# Altium footprint library pcb_lib.PcbLib: 5 footprints
Each footprint in its own frame and in the unit in brackets; x right, y up, seen from the top. Pads: shape width x height; smd on the part's side, far side on the other; paste and mask are expansions set on the pad; w line width, h text height; cw(c..) or ccw(c..) is an arc to the next point about the centre after c.
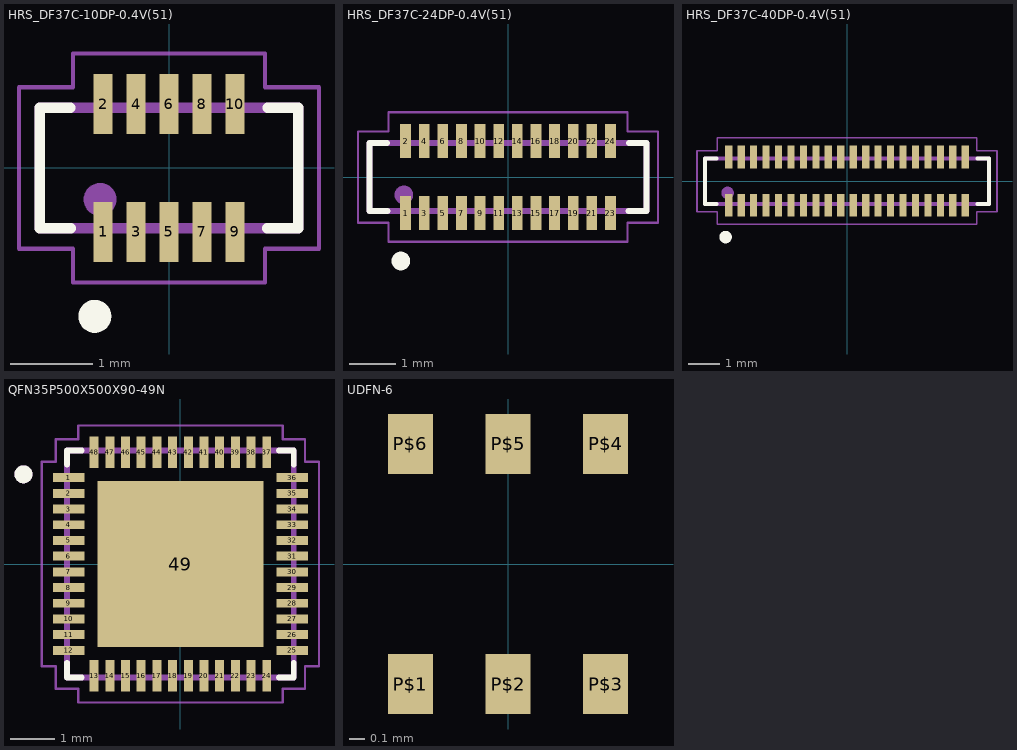
[diagram p0: the footprints below, top view; thin cyan lines are the x and y axes]

## HRS_DF37C-10DP-0.4V(51) [mm]
pads (10):
  rect 0.23x0.73 smd: 1(-0.8,-0.775) 2(-0.8,0.775) 3(-0.4,-0.775) 4(-0.4,0.775) 5(0,-0.775) 6(0,0.775) 7(0.4,-0.775) 8(0.4,0.775) 9(0.8,-0.775) 10(0.8,0.775)
Top Overlay:
  circle w0.2: c-0.9,-1.8 r0.1
  lines w0.127: -1.2,0.73 -1.57,0.73 -1.57,-0.73 -1.19,-0.73 ; 1.19,-0.73 1.57,-0.73 1.57,0.73 1.2,0.73
Top Paste:
  region: 0.685,-0.52 0.915,-0.52 0.915,-1.03 0.685,-1.03
  region: -0.117,-0.52 0.115,-0.52 0.115,-1.031 -0.117,-1.031
  region: 0.281,-0.52 0.515,-0.52 0.515,-1.032 0.281,-1.032
  region: -0.517,-0.52 -0.285,-0.52 -0.285,-1.031 -0.517,-1.031
  region: 0.684,1.03 0.915,1.03 0.915,0.52 0.684,0.52
  region: 0.284,1.03 0.515,1.03 0.515,0.52 0.284,0.52
  region: -0.117,1.03 0.115,1.03 0.115,0.52 -0.117,0.52
  region: -0.52,1.03 -0.285,1.03 -0.285,0.521 -0.52,0.521
  region: -0.92,-0.52 -0.685,-0.52 -0.685,-1.031 -0.92,-1.031
  region: -0.921,1.03 -0.685,1.03 -0.685,0.521 -0.921,0.521
Mechanical 4:
  circle w0.2: c-0.837,-0.381 r0.1
  circle w0.2: c-0.837,-0.381 r0.1
  lines w0.127: -1.57,-0.73 -1.57,0.73 ; -1.57,-0.73 1.57,-0.73 ; -1.57,-0.73 -1.57,0.73 ; -1.57,0.73 1.57,0.73 ; 1.57,-0.73 1.57,0.73 ; 1.57,-0.73 1.57,0.73
Mechanical 16:
  lines w0.05: -1.82,-0.98 -1.82,0.98 -1.165,0.98 -1.165,1.39 1.165,1.39 1.165,0.98 1.82,0.98 1.82,-0.98 1.165,-0.98 1.165,-1.39 -1.165,-1.39 -1.165,-0.98 -1.82,-0.98

## HRS_DF37C-24DP-0.4V(51) [mm]
pads (24):
  rect 0.23x0.73 smd: 1(-2.2,-0.775) 2(-2.2,0.775) 3(-1.8,-0.775) 4(-1.8,0.775) 5(-1.4,-0.775) 6(-1.4,0.775) 7(-1,-0.775) 8(-1,0.775) 9(-0.6,-0.775) 10(-0.6,0.775) 11(-0.2,-0.775) 12(-0.2,0.775) 13(0.2,-0.775) 14(0.2,0.775) 15(0.6,-0.775) 16(0.6,0.775) 17(1,-0.775) 18(1,0.775) 19(1.4,-0.775) 20(1.4,0.775) 21(1.8,-0.775) 22(1.8,0.775) 23(2.2,-0.775) 24(2.2,0.775)
Top Overlay:
  circle w0.2: c-2.3,-1.8 r0.1
  lines w0.127: -2.6,0.73 -2.97,0.73 -2.97,-0.73 -2.59,-0.73 ; 2.59,-0.73 2.97,-0.73 2.97,0.73 2.6,0.73
Top Paste:
  region: -2.321,1.03 -2.085,1.03 -2.085,0.521 -2.321,0.521
  region: -2.32,-0.52 -2.085,-0.52 -2.085,-1.031 -2.32,-1.031
  region: -1.92,1.03 -1.685,1.03 -1.685,0.521 -1.92,0.521
  region: -1.517,1.03 -1.285,1.03 -1.285,0.52 -1.517,0.52
  region: -1.116,1.03 -0.885,1.03 -0.885,0.52 -1.116,0.52
  region: -0.716,1.03 -0.485,1.03 -0.485,0.52 -0.716,0.52
  region: -0.317,1.03 -0.085,1.03 -0.085,0.52 -0.317,0.52
  region: 0.085,1.03 0.315,1.03 0.315,0.52 0.085,0.52
  region: 0.484,1.03 0.715,1.03 0.715,0.521 0.484,0.521
  region: 0.884,1.03 1.115,1.03 1.115,0.52 0.884,0.52
  region: 1.285,1.03 1.515,1.03 1.515,0.52 1.285,0.52
  region: 1.685,1.03 1.915,1.03 1.915,0.521 1.685,0.521
  region: 2.086,1.03 2.315,1.03 2.315,0.521 2.086,0.521
  region: -1.917,-0.52 -1.685,-0.52 -1.685,-1.031 -1.917,-1.031
  region: -1.119,-0.52 -0.885,-0.52 -0.885,-1.032 -1.119,-1.032
  region: -1.517,-0.52 -1.285,-0.52 -1.285,-1.031 -1.517,-1.031
  region: -0.715,-0.52 -0.485,-0.52 -0.485,-1.03 -0.715,-1.03
  region: -0.315,-0.52 -0.085,-0.52 -0.085,-1.03 -0.315,-1.03
  region: 0.083,-0.52 0.315,-0.52 0.315,-1.032 0.083,-1.032
  region: 0.484,-0.52 0.715,-0.52 0.715,-1.031 0.484,-1.031
  region: 0.884,-0.52 1.115,-0.52 1.115,-1.031 0.884,-1.031
  region: 1.284,-0.52 1.515,-0.52 1.515,-1.032 1.284,-1.032
  region: 1.685,-0.52 1.915,-0.52 1.915,-1.031 1.685,-1.031
  region: 2.086,-0.52 2.315,-0.52 2.315,-1.032 2.086,-1.032
Mechanical 4:
  circle w0.2: c-2.237,-0.381 r0.1
  circle w0.2: c-2.237,-0.381 r0.1
  lines w0.127: -2.97,-0.73 -2.97,0.73 ; -2.97,-0.73 2.97,-0.73 ; -2.97,-0.73 -2.97,0.73 ; -2.97,0.73 2.97,0.73 ; 2.97,-0.73 2.97,0.73 ; 2.97,-0.73 2.97,0.73
Mechanical 16:
  lines w0.05: -3.22,-0.98 -2.565,-0.98 -2.565,-1.39 2.565,-1.39 2.565,-0.98 3.22,-0.98 3.22,0.98 2.565,0.98 2.565,1.39 -2.565,1.39 -2.565,0.98 -3.22,0.98 -3.22,-0.98

## HRS_DF37C-40DP-0.4V(51) [mm]
pads (40):
  rect 0.23x0.73 smd: 1(-3.8,-0.775) 2(-3.8,0.775) 3(-3.4,-0.775) 4(-3.4,0.775) 5(-3,-0.775) 6(-3,0.775) 7(-2.6,-0.775) 8(-2.6,0.775) 9(-2.2,-0.775) 10(-2.2,0.775) 11(-1.8,-0.775) 12(-1.8,0.775) 13(-1.4,-0.775) 14(-1.4,0.775) 15(-1,-0.775) 16(-1,0.775) 17(-0.6,-0.775) 18(-0.6,0.775) 19(-0.2,-0.775) 20(-0.2,0.775) 21(0.2,-0.775) 22(0.2,0.775) 23(0.6,-0.775) 24(0.6,0.775) 25(1,-0.775) 26(1,0.775) 27(1.4,-0.775) 28(1.4,0.775) 29(1.8,-0.775) 30(1.8,0.775) 31(2.2,-0.775) 32(2.2,0.775) 33(2.6,-0.775) 34(2.6,0.775) 35(3,-0.775) 36(3,0.775) 37(3.4,-0.775) 38(3.4,0.775) 39(3.8,-0.775) 40(3.8,0.775)
Top Overlay:
  circle w0.2: c-3.9,-1.8 r0.1
  lines w0.127: -4.2,0.73 -4.57,0.73 -4.57,-0.73 -4.19,-0.73 ; 4.19,-0.73 4.57,-0.73 4.57,0.73 4.2,0.73
Top Paste:
  drawing of 40 lines, arcs and shapes, not listed
Mechanical 4:
  circle w0.2: c-3.837,-0.381 r0.1
  circle w0.2: c-3.837,-0.381 r0.1
  lines w0.127: -4.57,-0.73 -4.57,0.73 ; -4.57,-0.73 4.57,-0.73 ; -4.57,-0.73 -4.57,0.73 ; -4.57,-0.73 4.57,-0.73 ; -4.57,0.73 4.57,0.73 ; -4.57,0.73 4.57,0.73 ; 4.57,-0.73 4.57,0.73 ; 4.57,-0.73 4.57,0.73
Mechanical 16:
  lines w0.05: -4.82,-0.98 -4.82,0.98 -4.165,0.98 -4.165,1.39 4.165,1.39 4.165,0.98 4.82,0.98 4.82,-0.98 4.165,-0.98 4.165,-1.39 -4.165,-1.39 -4.165,-0.98 -4.82,-0.98

## QFN35P500X500X90-49N [mm]
pads (49):
  rect 0.7x0.2 smd: 1(-2.49,1.925) 2(-2.49,1.575) 3(-2.49,1.225) 4(-2.49,0.875) 5(-2.49,0.525) 6(-2.49,0.175) 7(-2.49,-0.175) 8(-2.49,-0.525) 9(-2.49,-0.875) 10(-2.49,-1.225) 11(-2.49,-1.575) 12(-2.49,-1.925) 25(2.49,-1.925) 26(2.49,-1.575) 27(2.49,-1.225) 28(2.49,-0.875) 29(2.49,-0.525) 30(2.49,-0.175) 31(2.49,0.175) 32(2.49,0.525) 33(2.49,0.875) 34(2.49,1.225) 35(2.49,1.575) 36(2.49,1.925)
  rect 0.2x0.7 smd: 13(-1.925,-2.49) 14(-1.575,-2.49) 15(-1.225,-2.49) 16(-0.875,-2.49) 17(-0.525,-2.49) 18(-0.175,-2.49) 19(0.175,-2.49) 20(0.525,-2.49) 21(0.875,-2.49) 22(1.225,-2.49) 23(1.575,-2.49) 24(1.925,-2.49) 37(1.925,2.49) 38(1.575,2.49) 39(1.225,2.49) 40(0.875,2.49) 41(0.525,2.49) 42(0.175,2.49) 43(-0.175,2.49) 44(-0.525,2.49) 45(-0.875,2.49) 46(-1.225,2.49) 47(-1.575,2.49) 48(-1.925,2.49)
  rect 3.7x3.7 smd: 49(0,0)
Top Overlay:
  circle w0.2: c-3.5,2 r0.1
  lines w0.127: -2.53,-2.2 -2.53,-2.53 -2.2,-2.53 ; -2.53,2.22 -2.53,2.53 -2.2,2.53 ; 2.2,-2.53 2.53,-2.53 2.53,-2.2 ; 2.2,2.53 2.53,2.53 2.53,2.21
Top Paste:
  region: -0.963,0.962 0.962,0.962 0.962,-0.963 -0.963,-0.963
Mechanical 1:
  circle w0.2: c-3.5,2 r0.1
  lines w0.127: -2.53,-2.53 -2.53,2.53 2.53,2.53 2.53,-2.53 -2.53,-2.53
Mechanical 4:
  lines w0.05: -3.09,-2.28 -2.78,-2.28 -2.78,-2.78 -2.28,-2.78 -2.28,-3.09 2.28,-3.09 2.28,-2.78 2.78,-2.78 2.78,-2.28 3.09,-2.28 3.09,2.28 2.78,2.28 2.78,2.78 2.28,2.78 2.28,3.09 -2.28,3.09 -2.28,2.78 -2.78,2.78 -2.78,2.28 -3.09,2.28 -3.09,-2.28

## UDFN-6 [mm]
pads (6):
  rect 0.3x0.4 smd: P$1(-0.65,-0.8) P$2(0,-0.8) P$3(0.65,-0.8) P$4(0.65,0.8) P$5(0,0.8) P$6(-0.65,0.8)